# EAGLE library part AMP (library ABI)
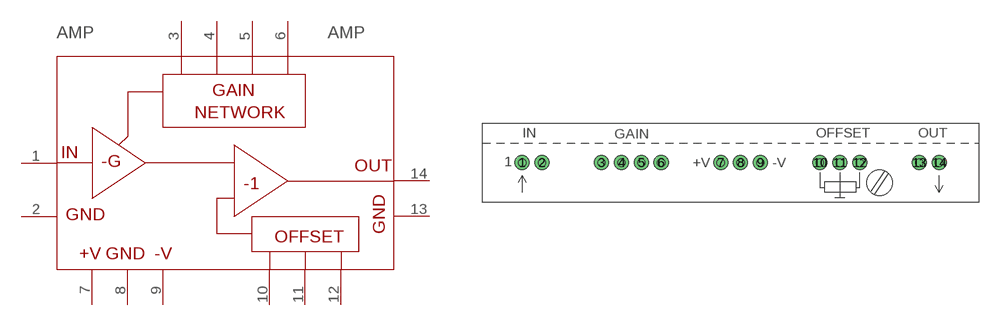
[diagram p6: symbol with the pads of AMP; footprint AMP]

Designator prefix AMP

## AMP  [AMP]
1  1
2  2
3  3
4  4
5  5
6  6
7  7
8  8
9  9
10  10
11  11
12  12
13  13
14  14

## Footprint AMP (pad centres in mm)
drill 1.016 pad 1.778 round: 1 -30.48,0; 2 -27.94,0; 3 -20.32,0; 4 -17.78,0; 5 -15.24,0; 6 -12.7,0; 7 -5.08,0; 8 -2.54,0; 9 0,0; 10 7.62,0; 11 10.16,0; 12 12.7,0; 13 20.32,0; 14 22.86,0